# Altium footprint library PcbLib1.PcbLib: 17 footprints (part 1 of 2)
Each footprint in its own frame and in the unit in brackets; x right, y up, seen from the top. Pads: shape width x height; smd on the part's side, far side on the other; paste and mask are expansions set on the pad; w line width, h text height; cw(c..) or ccw(c..) is an arc to the next point about the centre after c.
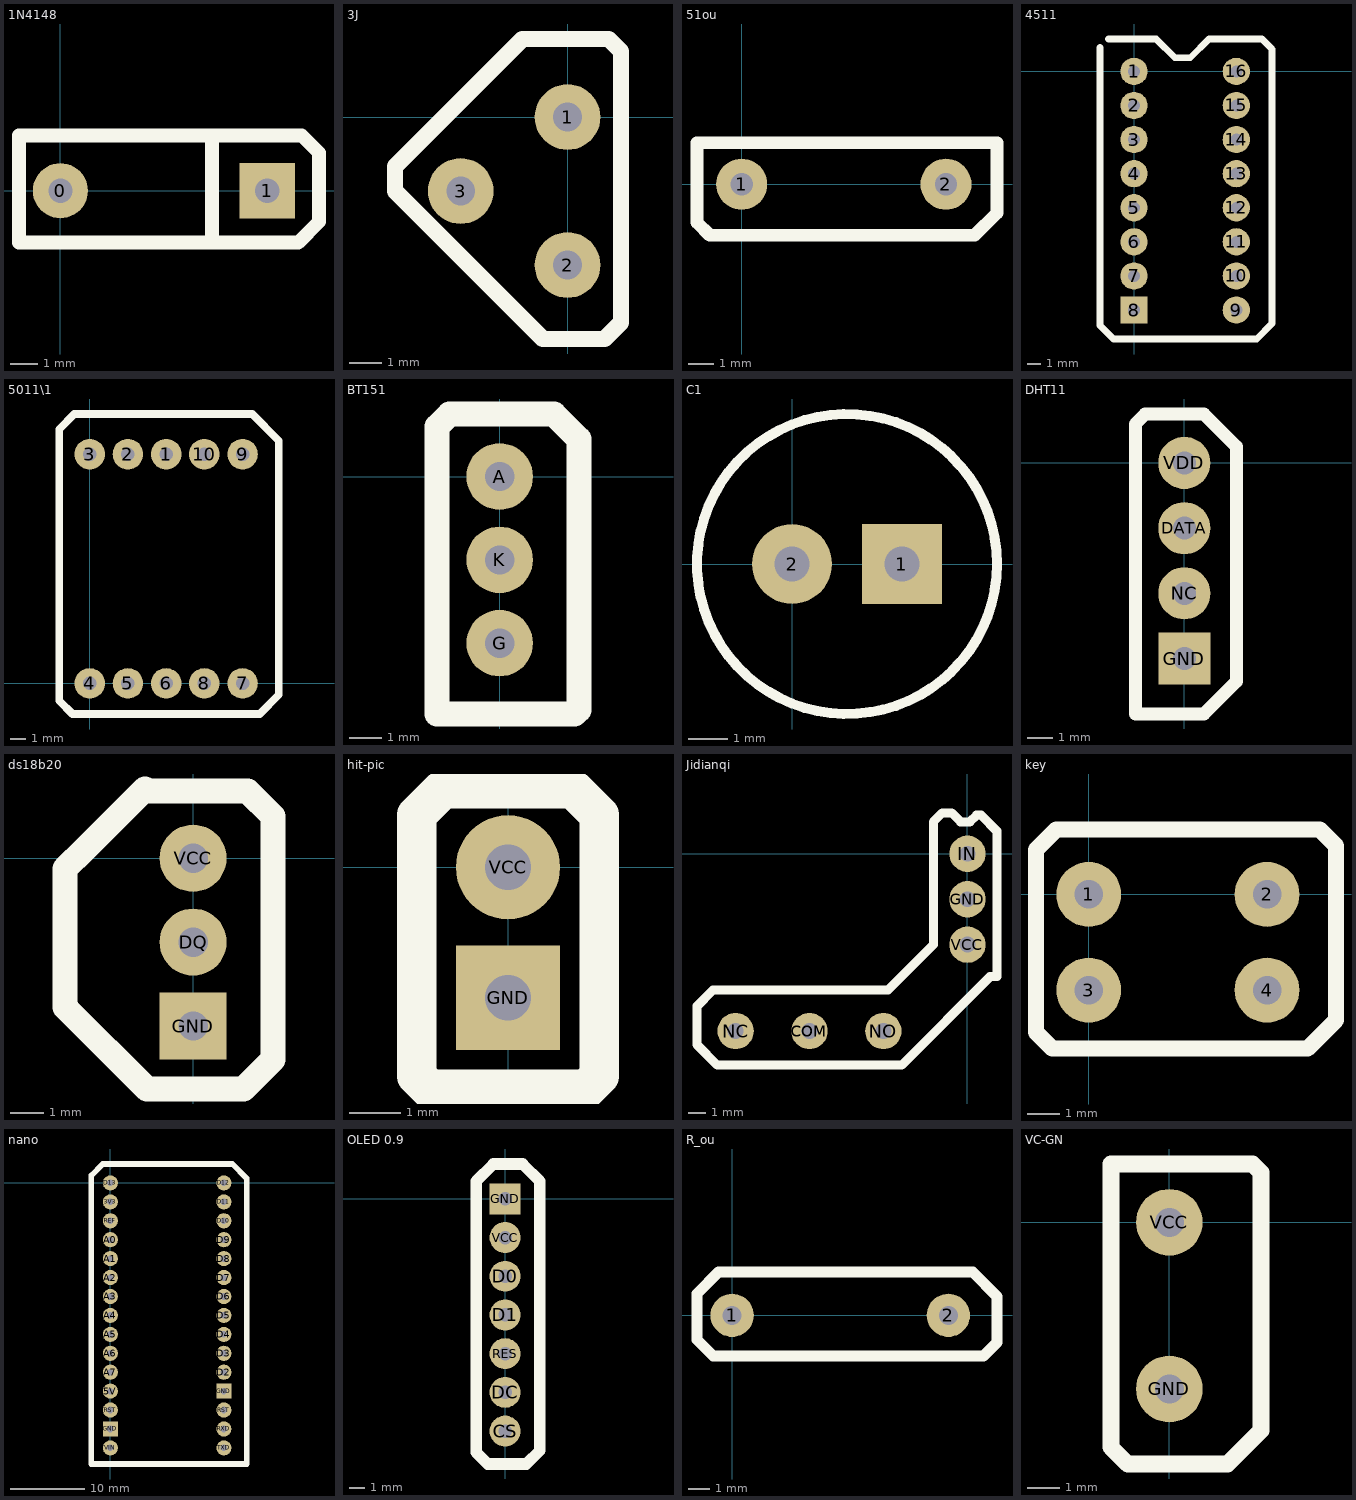
[diagram p0: the footprints below, top view; thin cyan lines are the x and y axes]

## 1N4148 [mil]
pads (2):
  round 80 hole 35: 0(0,0)
  rect 80x80 hole 35: 1(300,0)
Top Overlay:
  lines w20: -40,80 350,80 375,55 375,-45 345,-75 -60,-75 -60,80 -20,80 ; 220,-75 220,80

## 3J [mil]
pads (3):
  round 80 hole 35: 1(0,0) 2(0,-180) 3(-130,-90)
Top Overlay:
  lines w20: -210,-90 -210,-60 -55,95 -10,95 50,95 65,80 65,-250 45,-270 -30,-270 -75,-225 -97.5,-202.5 -140,-160 -165,-135 -210,-90

## 51ou [mil]
pads (2):
  round 80 hole 35: 1(0,0) 2(320,0)
Top Overlay:
  lines w20: -70,-60 -50,-80 365,-80 400,-45 400,65 -70,65 -70,-60

## 4511 [mil]
pads (16):
  round 80 hole 35: 1(0,0) 2(0,-100) 3(0,-200) 4(0,-300) 5(0,-400) 6(0,-500) 7(0,-600) 9(300,-700) 10(300,-600) 11(300,-500) 12(300,-400) 13(300,-300) 14(300,-200) 15(300,-100) 16(300,0)
  rect 80x80 hole 35: 8(0,-700)
Top Overlay:
  lines w20: -100,70 -100,-745 -60,-785 360,-785 405,-740 405,65 375,95 220,95 165,40 120,40 65,95 -75,95

## 5011\1 [mil]
pads (10):
  round 80 hole 35: 1(200,600) 2(100,600) 3(0,600) 4(0,0) 5(100,0) 6(200,0) 7(400,0) 8(300,0) 9(400,600) 10(300,600)
Top Overlay:
  lines w20: -80,-45 -80,665 -40,705 425,705 495,635 495,-30 445,-80 -45,-80 -80,-45

## BT151 [mil]
pads (3):
  round 80 hole 35: A(0,0) G(0,-200) K(0,-100)
Top Overlay:
  lines w30: -75,-285 -75,60 -60,75 65,75 95,45 95,-280 90,-285 -75,-285

## C1 [mil]
pads (2):
  rect 80x80 hole 35: 1(110,0)
  round 80 hole 35: 2(0,0)
Top Overlay:
  circle w10: c55,0 r150.33

## DHT11 [mil]
pads (4):
  round 80 hole 35: DATA(0,-100) NC(0,-200) VDD(0,0)
  rect 80x80 hole 35: GND(0,-300)
Top Overlay:
  lines w20: 10,75 30,75 80,25 80,-335 30,-385 -75,-385 -75,60 -60,75 20,75

## ds18b20 [mil]
pads (3):
  round 80 hole 35: DQ(0,-100) VCC(0,0)
  rect 80x80 hole 35: GND(0,-200)
Top Overlay:
  lines w30: -152.5,-177.5 -152.5,-12.5 -128.75,11.25 -81.25,58.75 -57.5,82.5 ; -150,-180 -55,-275 60,-275 95,-240 95,-167.5 95,-22.5 95,50 65,80 -55,80

## hit-pic [mil]
pads (2):
  rect 80x80 hole 35: GND(0,-100)
  round 80 hole 35: VCC(0,0)
Top Overlay:
  lines w30: -70,-160 -70,40 -50,60 50,60 70,40 70,-160 60,-170 -60,-170 -70,-160

## Jidianqi [mil]
pads (7):
  round 80 hole 35: COM(-347.5,-390) COM(-347.5,-390) GND(0,-100) IN(0,0) NC(-510,-390) NO(-185,-390) VCC(0,-200)
Top Overlay:
  lines w20: -595,-420 -550,-465 -145,-465 50,-270 65,-270 65,50 30,85 20,85 5,70 -15,70 -35,90 -55,90 -75,70 -75,-200 -175,-300 -560,-300 -595,-335 -595,-420

## key [mil]
pads (4):
  round 80 hole 35: 1(0,0) 2(220,0) 3(0,-118.11) 4(220,-118.11)
Top Overlay:
  lines w20: -65,-170 -45,-190 270,-190 305,-155 305,60 285,80 -40,80 -65,55 -65,-170

## nano [mil]
pads (30):
  round 80 hole 35: 3V3(0,-100) 5V(0,-1100) A0(0,-300) A1(0,-400) A2(0,-500) A3(0,-600) A4(0,-700) A5(0,-800) A6(0,-900) A7(0,-1000) D2(600,-1000) D3(600,-900) D4(600,-800) D5(600,-700) D6(600,-600) D7(600,-500) D8(600,-400) D9(600,-300) D10(600,-200) D11(600,-100) D12(600,0) D13(0,0) REF(0,-200) RST(0,-1200) RST(600,-1200) RXD(600,-1300) TXD(600,-1400) VIN(0,-1400)
  rect 80x80 hole 35: GND(0,-1300) GND(600,-1100)
Top Overlay:
  lines w30: -100,-1485 720,-1485 720,25 645,100 -40,100 -100,40 -100,-1485

## OLED 0.9 [mil]
pads (7):
  round 80 hole 35: CS(0,-600) D0(0,-200) D1(0,-300) DC(0,-500) RES(0,-400) VCC(0,-100)
  rect 80x80 hole 35: GND(0,0)
Top Overlay:
  lines w30: -75,-655 -45,-685 55,-685 90,-650 90,45 45,90 -30,90 -75,45 -75,-655

## R_ou [mil]
pads (2):
  round 80 hole 35: 1(0,0) 2(400,0)
Top Overlay:
  lines w20: -65,-45 -65,40 -25,80 445,80 490,35 490,-50 465,-75 -35,-75 -65,-45

## VC-GN [mil]
pads (2):
  round 80 hole 35: GND(0,-200) VCC(0,0)
Top Overlay:
  lines w20: -70,-270 -70,70 100,70 110,60 110,-250 70,-290 -50,-290 -70,-270